# Altium footprint library Quad Flat No Lead Square.PcbLib: 19 footprints (part 2 of 2)
Each footprint in its own frame and in the unit in brackets; x right, y up, seen from the top. Pads: shape width x height; smd on the part's side, far side on the other; paste and mask are expansions set on the pad; w line width, h text height; cw(c..) or ccw(c..) is an arc to the next point about the centre after c.
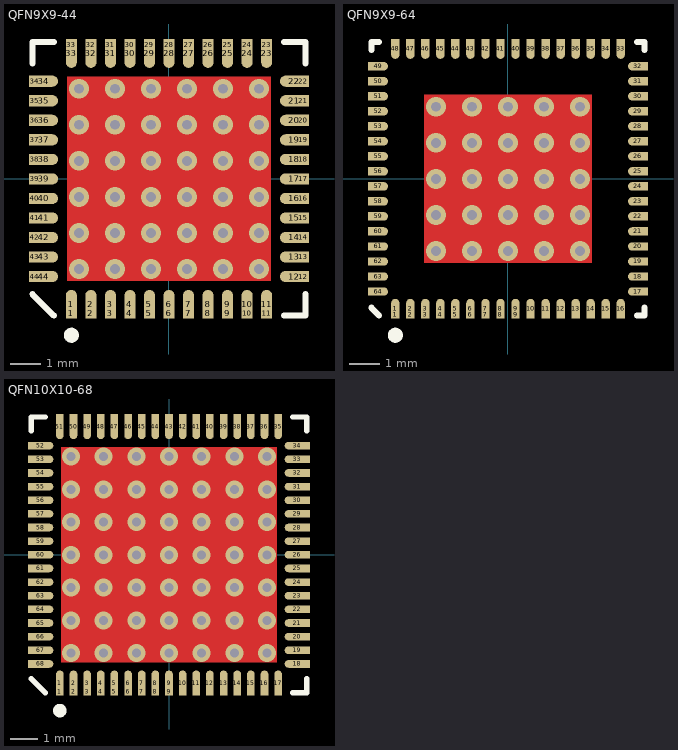
[diagram p1: the footprints below, top view; thin cyan lines are the x and y axes]

## QFN9X9-44 [mm] "Quad Flat No Lead, Plastic; 44 Terminals; Body 9 x 9 mm; Pitch 0.65 mm"
height 1
pads (88):
  rect 0.37x0.37 smd: 1(-3.25,-4.47) 2(-2.6,-4.47) 3(-1.95,-4.47) 4(-1.3,-4.47) 5(-0.65,-4.47) 6(0,-4.47) 7(0.65,-4.47) 8(1.3,-4.47) 9(1.95,-4.47) 10(2.6,-4.47) 11(3.25,-4.47) 12(4.47,-3.25) 13(4.47,-2.6) 14(4.47,-1.95) 15(4.47,-1.3) 16(4.47,-0.65) 17(4.47,0) 18(4.47,0.65) 19(4.47,1.3) 20(4.47,1.95) 21(4.47,2.6) 22(4.47,3.25) 23(3.25,4.47) 24(2.6,4.47) 25(1.95,4.47) 26(1.3,4.47) 27(0.65,4.47) 28(0,4.47) 29(-0.65,4.47) 30(-1.3,4.47) 31(-1.95,4.47) 32(-2.6,4.47) 33(-3.25,4.47) 34(-4.47,3.25) 35(-4.47,2.6) 36(-4.47,1.95) 37(-4.47,1.3) 38(-4.47,0.65) 39(-4.47,0) 40(-4.47,-0.65) 41(-4.47,-1.3) 42(-4.47,-1.95) 43(-4.47,-2.6) 44(-4.47,-3.25)
  oval 0.37x0.96 smd: 1(-3.25,-4.175) 2(-2.6,-4.175) 3(-1.95,-4.175) 4(-1.3,-4.175) 5(-0.65,-4.175) 6(0,-4.175) 7(0.65,-4.175) 8(1.3,-4.175) 9(1.95,-4.175) 10(2.6,-4.175) 11(3.25,-4.175) 23(3.25,4.175) 24(2.6,4.175) 25(1.95,4.175) 26(1.3,4.175) 27(0.65,4.175) 28(0,4.175) 29(-0.65,4.175) 30(-1.3,4.175) 31(-1.95,4.175) 32(-2.6,4.175) 33(-3.25,4.175)
  oval 0.96x0.37 smd: 12(4.175,-3.25) 13(4.175,-2.6) 14(4.175,-1.95) 15(4.175,-1.3) 16(4.175,-0.65) 17(4.175,0) 18(4.175,0.65) 19(4.175,1.3) 20(4.175,1.95) 21(4.175,2.6) 22(4.175,3.25) 34(-4.175,3.25) 35(-4.175,2.6) 36(-4.175,1.95) 37(-4.175,1.3) 38(-4.175,0.65) 39(-4.175,0) 40(-4.175,-0.65) 41(-4.175,-1.3) 42(-4.175,-1.95) 43(-4.175,-2.6) 44(-4.175,-3.25)
via -3,-3 diameter 0.66 hole 0.33
via -3,-1.8 diameter 0.66 hole 0.33
via -3,-0.6 diameter 0.66 hole 0.33
via -3,0.6 diameter 0.66 hole 0.33
via -1.8,-3 diameter 0.66 hole 0.33
via -1.8,-1.8 diameter 0.66 hole 0.33
via -1.8,-0.6 diameter 0.66 hole 0.33
via -1.8,0.6 diameter 0.66 hole 0.33
via -0.6,-3 diameter 0.66 hole 0.33
via -0.6,-1.8 diameter 0.66 hole 0.33
via -0.6,-0.6 diameter 0.66 hole 0.33
via -0.6,0.6 diameter 0.66 hole 0.33
via 0.6,-3 diameter 0.66 hole 0.33
via 0.6,-1.8 diameter 0.66 hole 0.33
via 0.6,-0.6 diameter 0.66 hole 0.33
via 0.6,0.6 diameter 0.66 hole 0.33
via 1.8,-3 diameter 0.66 hole 0.33
via 1.8,-1.8 diameter 0.66 hole 0.33
via 1.8,-0.6 diameter 0.66 hole 0.33
via 1.8,0.6 diameter 0.66 hole 0.33
via 3,-3 diameter 0.66 hole 0.33
via 3,-1.8 diameter 0.66 hole 0.33
via 3,-0.6 diameter 0.66 hole 0.33
via 3,0.6 diameter 0.66 hole 0.33
via 0.6,3 diameter 0.66 hole 0.33
via -0.6,3 diameter 0.66 hole 0.33
via -1.8,3 diameter 0.66 hole 0.33
via -3,3 diameter 0.66 hole 0.33
via 0.6,1.8 diameter 0.66 hole 0.33
via -0.6,1.8 diameter 0.66 hole 0.33
via -1.8,1.8 diameter 0.66 hole 0.33
via -3,1.8 diameter 0.66 hole 0.33
via 1.8,1.8 diameter 0.66 hole 0.33
via 1.8,3 diameter 0.66 hole 0.33
via 3,3 diameter 0.66 hole 0.33
via 3,1.8 diameter 0.66 hole 0.33
Top Layer:
  rectangle: -3.4,-3.4 3.4,3.4
Top Overlay:
  circle w0.25: c-3.25,-5.205 r0.125
  lines w0.2: -4.55,-3.835 -3.835,-4.55 ; -4.55,3.835 -4.55,4.55 -3.835,4.55 ; 3.835,-4.55 4.55,-4.55 4.55,-3.835 ; 3.835,4.55 4.55,4.55 4.55,3.835

## QFN9X9-64 [mm] "Quad Flat No Lead; 64 Terminals; Body 9 x 9 mm; Pitch 0.5 mm"
height 1
pads (128):
  rect 0.28x0.28 smd: 1(-3.75,-4.515) 2(-3.25,-4.515) 3(-2.75,-4.515) 4(-2.25,-4.515) 5(-1.75,-4.515) 6(-1.25,-4.515) 7(-0.75,-4.515) 8(-0.25,-4.515) 9(0.25,-4.515) 10(0.75,-4.515) 11(1.25,-4.515) 12(1.75,-4.515) 13(2.25,-4.515) 14(2.75,-4.515) 15(3.25,-4.515) 16(3.75,-4.515) 17(4.515,-3.75) 18(4.515,-3.25) 19(4.515,-2.75) 20(4.515,-2.25) 21(4.515,-1.75) 22(4.515,-1.25) 23(4.515,-0.75) 24(4.515,-0.25) 25(4.515,0.25) 26(4.515,0.75) 27(4.515,1.25) 28(4.515,1.75) 29(4.515,2.25) 30(4.515,2.75) 31(4.515,3.25) 32(4.515,3.75) 33(3.75,4.515) 34(3.25,4.515) 35(2.75,4.515) 36(2.25,4.515) 37(1.75,4.515) 38(1.25,4.515) 39(0.75,4.515) 40(0.25,4.515) 41(-0.25,4.515) 42(-0.75,4.515) 43(-1.25,4.515) 44(-1.75,4.515) 45(-2.25,4.515) 46(-2.75,4.515) 47(-3.25,4.515) 48(-3.75,4.515) 49(-4.515,3.75) 50(-4.515,3.25) 51(-4.515,2.75) 52(-4.515,2.25) 53(-4.515,1.75) 54(-4.515,1.25) 55(-4.515,0.75) 56(-4.515,0.25) 57(-4.515,-0.25) 58(-4.515,-0.75) 59(-4.515,-1.25) 60(-4.515,-1.75) 61(-4.515,-2.25) 62(-4.515,-2.75) 63(-4.515,-3.25) 64(-4.515,-3.75)
  oval 0.28x0.66 smd: 1(-3.75,-4.325) 2(-3.25,-4.325) 3(-2.75,-4.325) 4(-2.25,-4.325) 5(-1.75,-4.325) 6(-1.25,-4.325) 7(-0.75,-4.325) 8(-0.25,-4.325) 9(0.25,-4.325) 10(0.75,-4.325) 11(1.25,-4.325) 12(1.75,-4.325) 13(2.25,-4.325) 14(2.75,-4.325) 15(3.25,-4.325) 16(3.75,-4.325) 33(3.75,4.325) 34(3.25,4.325) 35(2.75,4.325) 36(2.25,4.325) 37(1.75,4.325) 38(1.25,4.325) 39(0.75,4.325) 40(0.25,4.325) 41(-0.25,4.325) 42(-0.75,4.325) 43(-1.25,4.325) 44(-1.75,4.325) 45(-2.25,4.325) 46(-2.75,4.325) 47(-3.25,4.325) 48(-3.75,4.325)
  oval 0.66x0.28 smd: 17(4.325,-3.75) 18(4.325,-3.25) 19(4.325,-2.75) 20(4.325,-2.25) 21(4.325,-1.75) 22(4.325,-1.25) 23(4.325,-0.75) 24(4.325,-0.25) 25(4.325,0.25) 26(4.325,0.75) 27(4.325,1.25) 28(4.325,1.75) 29(4.325,2.25) 30(4.325,2.75) 31(4.325,3.25) 32(4.325,3.75) 49(-4.325,3.75) 50(-4.325,3.25) 51(-4.325,2.75) 52(-4.325,2.25) 53(-4.325,1.75) 54(-4.325,1.25) 55(-4.325,0.75) 56(-4.325,0.25) 57(-4.325,-0.25) 58(-4.325,-0.75) 59(-4.325,-1.25) 60(-4.325,-1.75) 61(-4.325,-2.25) 62(-4.325,-2.75) 63(-4.325,-3.25) 64(-4.325,-3.75)
via -2.4,-1.2 diameter 0.66 hole 0.33
via -2.4,0 diameter 0.66 hole 0.33
via -2.4,-2.4 diameter 0.66 hole 0.33
via -2.4,1.2 diameter 0.66 hole 0.33
via -2.4,2.4 diameter 0.66 hole 0.33
via -1.2,-1.2 diameter 0.66 hole 0.33
via -1.2,0 diameter 0.66 hole 0.33
via -1.2,-2.4 diameter 0.66 hole 0.33
via -1.2,1.2 diameter 0.66 hole 0.33
via -1.2,2.4 diameter 0.66 hole 0.33
via 0,-1.2 diameter 0.66 hole 0.33
via 0,0 diameter 0.66 hole 0.33
via 0,-2.4 diameter 0.66 hole 0.33
via 0,1.2 diameter 0.66 hole 0.33
via 0,2.4 diameter 0.66 hole 0.33
via 1.2,-1.2 diameter 0.66 hole 0.33
via 1.2,0 diameter 0.66 hole 0.33
via 1.2,-2.4 diameter 0.66 hole 0.33
via 1.2,1.2 diameter 0.66 hole 0.33
via 1.2,2.4 diameter 0.66 hole 0.33
via 2.4,-1.2 diameter 0.66 hole 0.33
via 2.4,0 diameter 0.66 hole 0.33
via 2.4,-2.4 diameter 0.66 hole 0.33
via 2.4,1.2 diameter 0.66 hole 0.33
via 2.4,2.4 diameter 0.66 hole 0.33
Top Layer:
  rectangle: -2.8,-2.8 2.8,2.8
Top Overlay:
  circle w0.25: c-3.75,-5.205 r0.125
  lines w0.2: -4.55,-4.29 -4.29,-4.55 ; -4.55,4.29 -4.55,4.55 -4.29,4.55 ; 4.29,-4.55 4.55,-4.55 4.55,-4.29 ; 4.29,4.55 4.55,4.55 4.55,4.29

## QFN10X10-68 [mm] "Quad Flat No Lead, Plastic; 68 Terminals; Body 10 x 10 mm; Pitch 0.5 mm"
height 1
pads (136):
  rect 0.28x0.28 smd: 1(-4,-5.02) 2(-3.5,-5.02) 3(-3,-5.02) 4(-2.5,-5.02) 5(-2,-5.02) 6(-1.5,-5.02) 7(-1,-5.02) 8(-0.5,-5.02) 9(0,-5.02) 10(0.5,-5.02) 11(1,-5.02) 12(1.5,-5.02) 13(2,-5.02) 14(2.5,-5.02) 15(3,-5.02) 16(3.5,-5.02) 17(4,-5.02) 18(5.02,-4) 19(5.02,-3.5) 20(5.02,-3) 21(5.02,-2.5) 22(5.02,-2) 23(5.02,-1.5) 24(5.02,-1) 25(5.02,-0.5) 26(5.02,0) 27(5.02,0.5) 28(5.02,1) 29(5.02,1.5) 30(5.02,2) 31(5.02,2.5) 32(5.02,3) 33(5.02,3.5) 34(5.02,4) 35(4,5.02) 36(3.5,5.02) 37(3,5.02) 38(2.5,5.02) 39(2,5.02) 40(1.5,5.02) 41(1,5.02) 42(0.5,5.02) 43(0,5.02) 44(-0.5,5.02) 45(-1,5.02) 46(-1.5,5.02) 47(-2,5.02) 48(-2.5,5.02) 49(-3,5.02) 50(-3.5,5.02) 51(-4,5.02) 52(-5.02,4) 53(-5.02,3.5) 54(-5.02,3) 55(-5.02,2.5) 56(-5.02,2) 57(-5.02,1.5) 58(-5.02,1) 59(-5.02,0.5) 60(-5.02,0) 61(-5.02,-0.5) 62(-5.02,-1) 63(-5.02,-1.5) 64(-5.02,-2) 65(-5.02,-2.5) 66(-5.02,-3) 67(-5.02,-3.5) 68(-5.02,-4)
  oval 0.28x0.92 smd: 1(-4,-4.7) 2(-3.5,-4.7) 3(-3,-4.7) 4(-2.5,-4.7) 5(-2,-4.7) 6(-1.5,-4.7) 7(-1,-4.7) 8(-0.5,-4.7) 9(0,-4.7) 10(0.5,-4.7) 11(1,-4.7) 12(1.5,-4.7) 13(2,-4.7) 14(2.5,-4.7) 15(3,-4.7) 16(3.5,-4.7) 17(4,-4.7) 35(4,4.7) 36(3.5,4.7) 37(3,4.7) 38(2.5,4.7) 39(2,4.7) 40(1.5,4.7) 41(1,4.7) 42(0.5,4.7) 43(0,4.7) 44(-0.5,4.7) 45(-1,4.7) 46(-1.5,4.7) 47(-2,4.7) 48(-2.5,4.7) 49(-3,4.7) 50(-3.5,4.7) 51(-4,4.7)
  oval 0.92x0.28 smd: 18(4.7,-4) 19(4.7,-3.5) 20(4.7,-3) 21(4.7,-2.5) 22(4.7,-2) 23(4.7,-1.5) 24(4.7,-1) 25(4.7,-0.5) 26(4.7,0) 27(4.7,0.5) 28(4.7,1) 29(4.7,1.5) 30(4.7,2) 31(4.7,2.5) 32(4.7,3) 33(4.7,3.5) 34(4.7,4) 52(-4.7,4) 53(-4.7,3.5) 54(-4.7,3) 55(-4.7,2.5) 56(-4.7,2) 57(-4.7,1.5) 58(-4.7,1) 59(-4.7,0.5) 60(-4.7,0) 61(-4.7,-0.5) 62(-4.7,-1) 63(-4.7,-1.5) 64(-4.7,-2) 65(-4.7,-2.5) 66(-4.7,-3) 67(-4.7,-3.5) 68(-4.7,-4)
via 3.6,2.4 diameter 0.66 hole 0.33
via 3.6,3.6 diameter 0.66 hole 0.33
via 2.4,2.4 diameter 0.66 hole 0.33
via 2.4,3.6 diameter 0.66 hole 0.33
via -3.6,3.6 diameter 0.66 hole 0.33
via -2.4,3.6 diameter 0.66 hole 0.33
via 1.2,3.6 diameter 0.66 hole 0.33
via -1.2,3.6 diameter 0.66 hole 0.33
via 0,3.6 diameter 0.66 hole 0.33
via -3.6,2.4 diameter 0.66 hole 0.33
via -2.4,2.4 diameter 0.66 hole 0.33
via 1.2,2.4 diameter 0.66 hole 0.33
via -1.2,2.4 diameter 0.66 hole 0.33
via 0,2.4 diameter 0.66 hole 0.33
via 3.6,1.2 diameter 0.66 hole 0.33
via 3.6,0 diameter 0.66 hole 0.33
via 3.6,-3.6 diameter 0.66 hole 0.33
via 3.6,-1.2 diameter 0.66 hole 0.33
via 3.6,-2.4 diameter 0.66 hole 0.33
via 2.4,1.2 diameter 0.66 hole 0.33
via 2.4,0 diameter 0.66 hole 0.33
via 2.4,-3.6 diameter 0.66 hole 0.33
via 2.4,-1.2 diameter 0.66 hole 0.33
via 2.4,-2.4 diameter 0.66 hole 0.33
via 1.2,1.2 diameter 0.66 hole 0.33
via 1.2,0 diameter 0.66 hole 0.33
via 1.2,-3.6 diameter 0.66 hole 0.33
via 1.2,-1.2 diameter 0.66 hole 0.33
via 1.2,-2.4 diameter 0.66 hole 0.33
via -3.6,1.2 diameter 0.66 hole 0.33
via -3.6,0 diameter 0.66 hole 0.33
via -3.6,-3.6 diameter 0.66 hole 0.33
via -3.6,-1.2 diameter 0.66 hole 0.33
via -3.6,-2.4 diameter 0.66 hole 0.33
via -2.4,1.2 diameter 0.66 hole 0.33
via -2.4,0 diameter 0.66 hole 0.33
via -2.4,-3.6 diameter 0.66 hole 0.33
via -2.4,-1.2 diameter 0.66 hole 0.33
via -2.4,-2.4 diameter 0.66 hole 0.33
via -1.2,1.2 diameter 0.66 hole 0.33
via -1.2,0 diameter 0.66 hole 0.33
via -1.2,-3.6 diameter 0.66 hole 0.33
via -1.2,-1.2 diameter 0.66 hole 0.33
via -1.2,-2.4 diameter 0.66 hole 0.33
via 0,1.2 diameter 0.66 hole 0.33
via 0,0 diameter 0.66 hole 0.33
via 0,-3.6 diameter 0.66 hole 0.33
via 0,-1.2 diameter 0.66 hole 0.33
via 0,-2.4 diameter 0.66 hole 0.33
Top Layer:
  rectangle: -3.95,-3.95 3.95,3.95
Top Overlay:
  circle w0.25: c-4,-5.71 r0.125
  lines w0.2: -5.05,-4.54 -4.54,-5.05 ; -5.05,4.54 -5.05,5.05 -4.54,5.05 ; 4.54,-5.05 5.05,-5.05 5.05,-4.54 ; 4.54,5.05 5.05,5.05 5.05,4.54